# EAGLE library part EXTERNAL_DEBUG_CON (library range_cape)
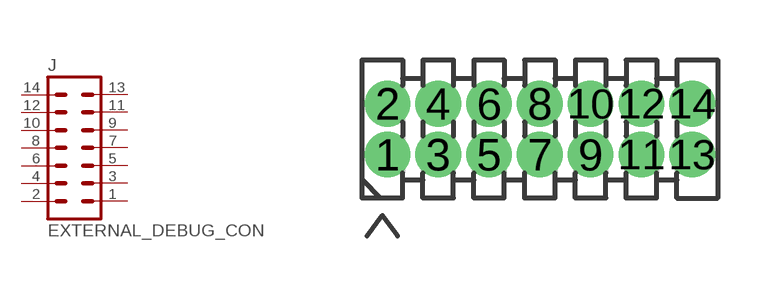
[diagram p5: symbol with the pads of EXTERNAL_DEBUG; footprint EXTERNAL_DEBUG]

Designator prefix J

## EXTERNAL_DEBUG_CON  [EXTERNAL_DEBUG]
1  1  pas
2  2  pas
3  3  pas
4  4  pas
5  5  pas
6  6  pas
7  7  pas
8  8  pas
9  9  pas
10  10  pas
11  11  pas
12  12  pas
13  13  pas
14  14  pas

## Footprint EXTERNAL_DEBUG (pad centres in mm)
drill 0.635 pad 0.737: 1 -2.54,-0.635; 2 -2.54,0.635; 3 -1.27,-0.635; 4 -1.27,0.635; 5 0,-0.635; 6 0,0.635; 7 1.27,-0.635; 9 2.54,-0.635; 10 2.54,0.635; 11 3.81,-0.635; 12 3.81,0.635; 13 5.08,-0.635; 14 5.08,0.635
drill 0.635 pad 0.762: 8 1.27,0.635